# EAGLE library part AUDIOAMP_NCP2811 (library Heep)
NCP2811 Stereo Headphone Amplifier TSSOP-14 - Mouser: 863-NCP2811ADTBR2G
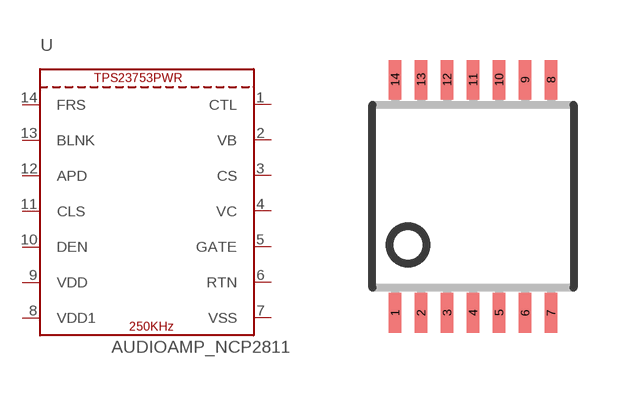
[diagram p2: symbol with the pads of TSSOP14; footprint TSSOP14]

Designator prefix U

## AUDIOAMP_NCP2811  [TSSOP14]
1  CTL
2  VB
3  CS
4  VC
5  GATE
6  RTN
7  VSS
8  VDD1
9  VDD
10  DEN
11  CLS
12  APD
13  BLNK
14  FRS

## Footprint TSSOP14 (pad centres in mm)
Thin Shrink Small Outline Plastic 14
smd 0.305 x 0.991: 1 -1.95,-2.918; 2 -1.3,-2.918; 3 -0.65,-2.918; 4 0,-2.918; 5 0.65,-2.918; 6 1.3,-2.918; 7 1.95,-2.918; 8 1.95,2.918; 9 1.3,2.918; 10 0.65,2.918; 11 0,2.918; 12 -0.65,2.918; 13 -1.3,2.918; 14 -1.95,2.918